# Altium footprint library CK45-E3AD103ZYGNA.PcbLib: 1 footprints
Each footprint in its own frame and in the unit in brackets; x right, y up, seen from the top. Pads: shape width x height; smd on the part's side, far side on the other; paste and mask are expansions set on the pad; w line width, h text height; cw(c..) or ccw(c..) is an arc to the next point about the centre after c.
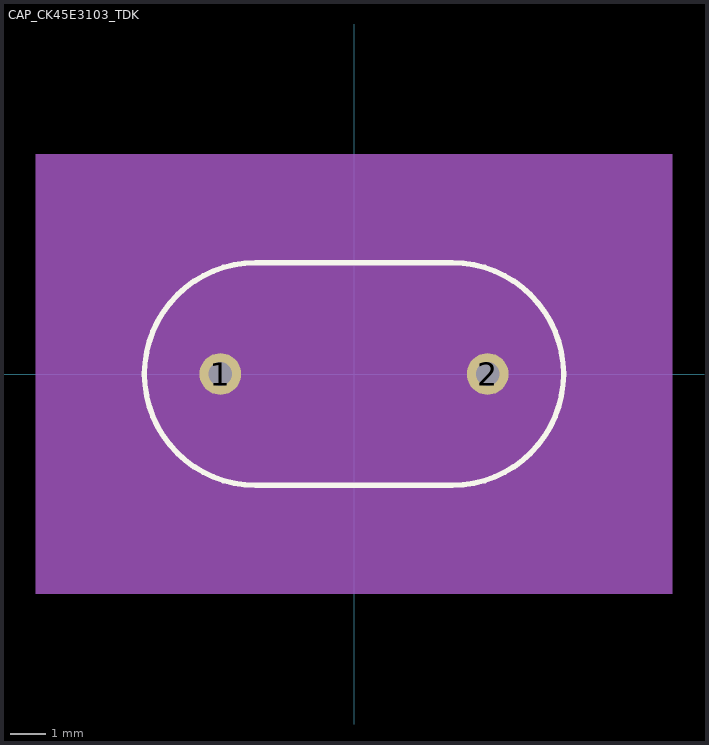
[diagram p0: the footprint, top view; thin cyan lines are the x and y axes]

## CAP_CK45E3103_TDK [mil]
pads (2):
  round 46 hole 26 mask+0: 1(-147.64,0) 2(147.64,0)
Top Overlay:
  lines w6: -108.5,-123 cw(c-108.5,0) -108.5,123 108.5,123 cw(c108.5,0) 231.5,0 cw(c108.5,0) 108.5,-123 -108.5,-123
Mechanical 5:
  region: 351.5,-243 -351.5,-243 -351.5,243 351.5,243
Mechanical 13:
  lines w0: -108.5,-118 cw(c-108.5,0) -108.5,118 ; 108.5,-118 ccw(c108.5,0) 108.5,118
  lines w1: -108.5,-118 108.5,-118 ; -108.5,118 108.5,118
Mechanical 15:
  region: 236.5,-128 -236.5,-128 -236.5,128 236.5,128
  lines w6: -236.5,-128 236.5,-128 236.5,128 -236.5,128 -236.5,-128
3D body: height 10, standoff 0, extent 0,0 10,10